# Altium footprint library SR3R0100FE66.PcbLib: 1 footprints
Each footprint in its own frame and in the unit in brackets; x right, y up, seen from the top. Pads: shape width x height; smd on the part's side, far side on the other; paste and mask are expansions set on the pad; w line width, h text height; cw(c..) or ccw(c..) is an arc to the next point about the centre after c.
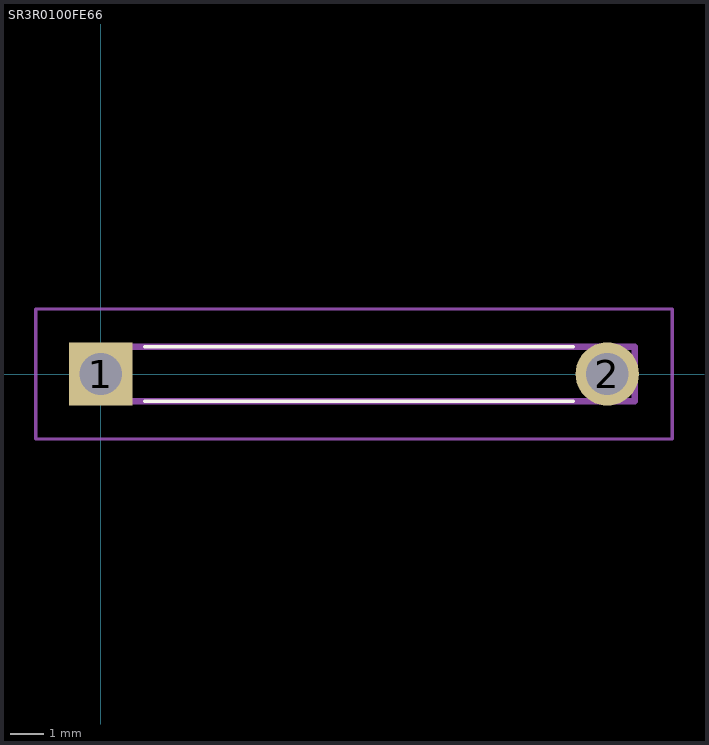
[diagram p0: the footprint, top view; thin cyan lines are the x and y axes]

## SR3R0100FE66 [mil]
pads (2):
  rect 75.04x75.04 hole 50.04: 1(0,0)
  round 75.04 hole 50.04: 2(600,0)
Top Overlay:
  lines w3.94: 51.97,-32.28 559.84,-32.28 ; 51.97,32.28 559.84,32.28
Mechanical 15:
  lines w7.87: -32.48,-32.28 632.48,-32.28 632.48,32.28 -32.48,32.28 -32.48,-32.28
Mechanical 20:
  lines w3.94: -76.89,-76.89 676.89,-76.89 676.89,76.89 -76.89,76.89 -76.89,-76.89